# Altium schematic symbol library 40106.Schlib: 1 symbol
Pins are listed as number, name and electrical type; pins without a type are passive.

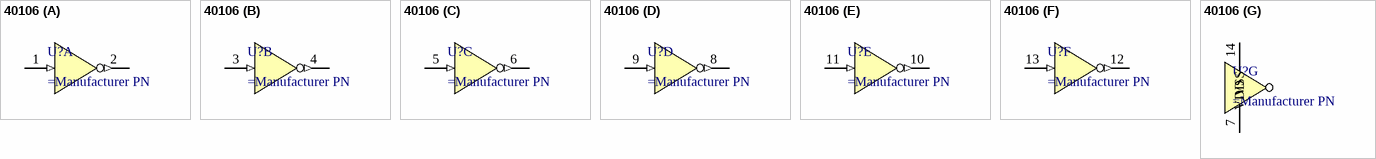
[diagram p0: symbol 40106]

## 40106
designator U?
Hex Schmitt Trigger Inverter
part A pins: 1 A (in), 2 ~{A} (out)
part B pins: 3 B (in), 4 ~{B} (out)
part C pins: 5 C (in), 6 ~{C} (out)
part D pins: 8 J (out), 9 D (in)
part E pins: 10 K (out), 11 E (in)
part F pins: 12 L (out), 13 F (in)
part G pins: 7 VSS (power), 14 VDD (power)